# EAGLE library part SA03-* (library king-displays)
7.62mm (0.3INCH) SINGLE DIGIT NUMERIC DISPLAY Description Features z 0.3 inch digit height. z Excellent character appearance. z Easy mounting on P.C. boards or sockets. z Mechanically rugged. z Standard : gray face,white segment. z RoHS compliant. How to order Family color SA03 11EWA = Red 11SRWA = ultra Red 11YWA = Yellow 11GWA = Green Ref: Datasheet <http://www.kingbrightusa.com/images/catalog/SPEC/SA03-11EWA.pdf>
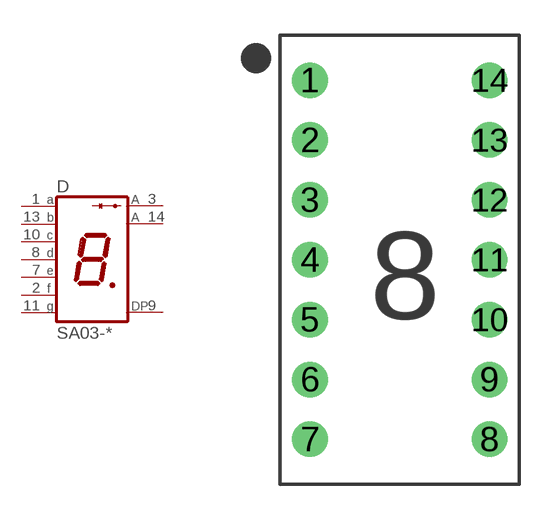
[diagram p0: symbol with the pads of SX03P1016X1906-14S; footprint SX03P1016X1906-14S]

Designator prefix D

## SA03-@  [SX03P1016X1906-14S]
1  A  pas
2  F  pas
3  A  pas
7  E  pas
8  D  pas
9  DP  pas
10  C  pas
11  G  pas
13  B  pas
14  A  pas

## Footprint SX03P1016X1906-14S (pad centres in mm)
Single led display 10.16mm L x 19.06mm W x 6.1mm H ----------------------------------------------
drill 1: 1 -3.81,7.62; 2 -3.81,5.08; 3 -3.81,2.54; 4 -3.81,0; 5 -3.81,-2.54; 6 -3.81,-5.08; 7 -3.81,-7.62; 8 3.81,-7.62; 9 3.81,-5.08; 10 3.81,-2.54; 11 3.81,0; 12 3.81,2.54; 13 3.81,5.08; 14 3.81,7.62